# Altium schematic symbol library NCP51820.Schlib: 1 symbol
Pins are listed as number, name and electrical type; pins without a type are passive.

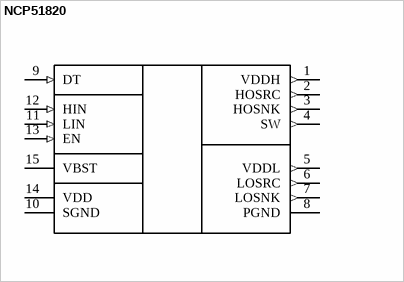
[diagram p0: symbol NCP51820]

## NCP51820
designator DD?
Driver
pins: 1 VDDH (out), 2 HOSRC (out), 3 HOSNK (out), 4 SW (out), 5 VDDL (out), 6 LOSRC (out), 7 LOSNK (out), 8 PGND (power), 9 DT (in), 10 SGND (power), 11 LIN (in), 12 HIN (in), 13 EN (in), 14 VDD (power), 15 VBST (power)